# Altium schematic symbol library Connector_Generic.SchLib: 334 symbols (part 8 of 8)
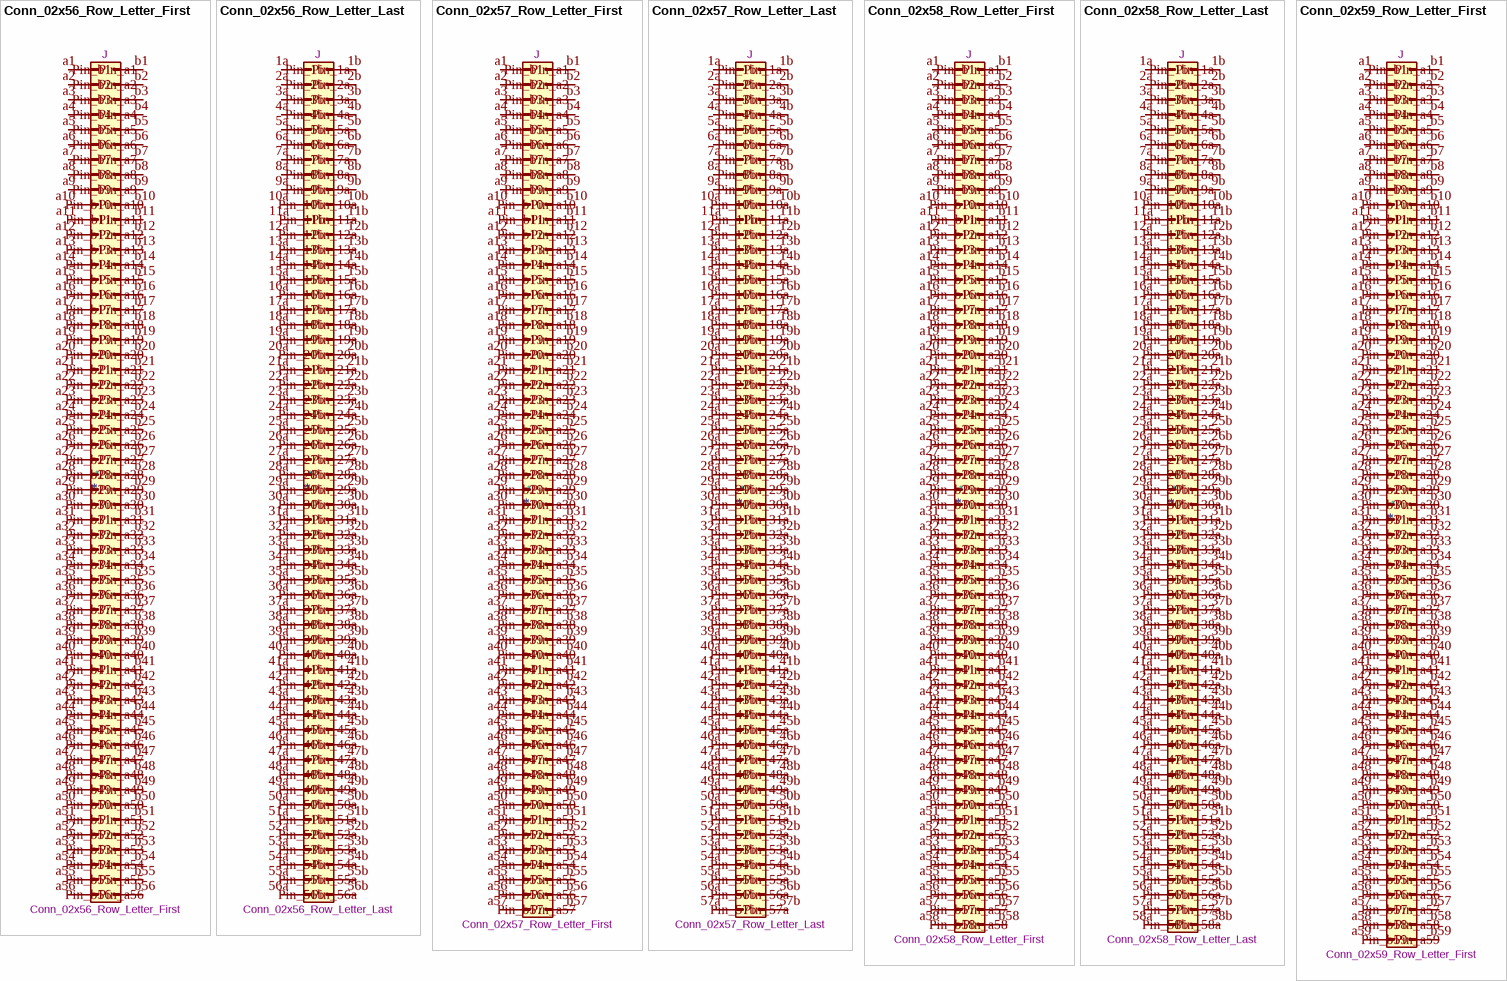
[diagram p23: symbols Conn_02x56_Row_Letter_First to Conn_02x59_Row_Letter_First]

## Conn_02x56_Row_Letter_Last
designator *  value Conn_02x56_Row_Letter_Last  Reference: J
"Generic connector, double row, 02x56, row letter last pin numbering scheme (pin number consists of a number for the row and a letter for the pin index in this row. 1a, ..., Na; 1b, ..., Nb)), script generated"; ki_fp_filters: Connector*:*_2x??_*; Datasheet: ~; Description_: "Generic connector, double row, 02x56, row letter last pin numbering scheme (pin number consists of a number for the row and a letter for the pin index in this row. 1a, ..., Na; 1b, ..., Nb)), script generated"; ki_keywords: connector
pins: 1a Pin_1a, 1b Pin_1b, 2a Pin_2a, 2b Pin_2b, 3a Pin_3a, 3b Pin_3b, 4a Pin_4a, 4b Pin_4b, 5a Pin_5a, 5b Pin_5b, 6a Pin_6a, 6b Pin_6b, 7a Pin_7a, 7b Pin_7b, 8a Pin_8a, 8b Pin_8b, 9a Pin_9a, 9b Pin_9b, 10a Pin_10a, 10b Pin_10b, 11a Pin_11a, 11b Pin_11b, 12a Pin_12a, 12b Pin_12b, 13a Pin_13a, 13b Pin_13b, 14a Pin_14a, 14b Pin_14b, 15a Pin_15a, 15b Pin_15b, 16a Pin_16a, 16b Pin_16b, 17a Pin_17a, 17b Pin_17b, 18a Pin_18a, 18b Pin_18b, 19a Pin_19a, 19b Pin_19b, 20a Pin_20a, 20b Pin_20b, 21a Pin_21a, 21b Pin_21b, 22a Pin_22a, 22b Pin_22b, 23a Pin_23a, 23b Pin_23b, 24a Pin_24a, 24b Pin_24b, 25a Pin_25a, 25b Pin_25b, 26a Pin_26a, 26b Pin_26b, 27a Pin_27a, 27b Pin_27b, 28a Pin_28a, 28b Pin_28b, 29a Pin_29a, 29b Pin_29b, 30a Pin_30a, 30b Pin_30b, 31a Pin_31a, 31b Pin_31b, 32a Pin_32a, 32b Pin_32b, 33a Pin_33a, 33b Pin_33b, 34a Pin_34a, 34b Pin_34b, 35a Pin_35a, 35b Pin_35b, 36a Pin_36a, 36b Pin_36b, 37a Pin_37a, 37b Pin_37b, 38a Pin_38a, 38b Pin_38b, 39a Pin_39a, 39b Pin_39b, 40a Pin_40a, 40b Pin_40b, 41a Pin_41a, 41b Pin_41b, 42a Pin_42a, 42b Pin_42b, 43a Pin_43a, 43b Pin_43b, 44a Pin_44a, 44b Pin_44b, 45a Pin_45a, 45b Pin_45b, 46a Pin_46a, 46b Pin_46b, 47a Pin_47a, 47b Pin_47b, 48a Pin_48a, 48b Pin_48b, 49a Pin_49a, 49b Pin_49b, 50a Pin_50a, 50b Pin_50b, 51a Pin_51a, 51b Pin_51b, 52a Pin_52a, 52b Pin_52b, 53a Pin_53a, 53b Pin_53b, 54a Pin_54a, 54b Pin_54b, 55a Pin_55a, 55b Pin_55b, 56a Pin_56a, 56b Pin_56b

## Conn_02x57_Row_Letter_First
designator *  value Conn_02x57_Row_Letter_First  Reference: J
"Generic connector, double row, 02x57, row letter first pin numbering scheme (pin number consists of a letter for the row and a number for the pin index in this row. a1, ..., aN; b1, ..., bN), script generated"; ki_fp_filters: Connector*:*_2x??_*; Datasheet: ~; Description_: "Generic connector, double row, 02x57, row letter first pin numbering scheme (pin number consists of a letter for the row and a number for the pin index in this row. a1, ..., aN; b1, ..., bN), script generated"; ki_keywords: connector
pins: a1 Pin_a1, a2 Pin_a2, a3 Pin_a3, a4 Pin_a4, a5 Pin_a5, a6 Pin_a6, a7 Pin_a7, a8 Pin_a8, a9 Pin_a9, a10 Pin_a10, a11 Pin_a11, a12 Pin_a12, a13 Pin_a13, a14 Pin_a14, a15 Pin_a15, a16 Pin_a16, a17 Pin_a17, a18 Pin_a18, a19 Pin_a19, a20 Pin_a20, a21 Pin_a21, a22 Pin_a22, a23 Pin_a23, a24 Pin_a24, a25 Pin_a25, a26 Pin_a26, a27 Pin_a27, a28 Pin_a28, a29 Pin_a29, a30 Pin_a30, a31 Pin_a31, a32 Pin_a32, a33 Pin_a33, a34 Pin_a34, a35 Pin_a35, a36 Pin_a36, a37 Pin_a37, a38 Pin_a38, a39 Pin_a39, a40 Pin_a40, a41 Pin_a41, a42 Pin_a42, a43 Pin_a43, a44 Pin_a44, a45 Pin_a45, a46 Pin_a46, a47 Pin_a47, a48 Pin_a48, a49 Pin_a49, a50 Pin_a50, a51 Pin_a51, a52 Pin_a52, a53 Pin_a53, a54 Pin_a54, a55 Pin_a55, a56 Pin_a56, a57 Pin_a57, b1 Pin_b1, b2 Pin_b2, b3 Pin_b3, b4 Pin_b4, b5 Pin_b5, b6 Pin_b6, b7 Pin_b7, b8 Pin_b8, b9 Pin_b9, b10 Pin_b10, b11 Pin_b11, b12 Pin_b12, b13 Pin_b13, b14 Pin_b14, b15 Pin_b15, b16 Pin_b16, b17 Pin_b17, b18 Pin_b18, b19 Pin_b19, b20 Pin_b20, b21 Pin_b21, b22 Pin_b22, b23 Pin_b23, b24 Pin_b24, b25 Pin_b25, b26 Pin_b26, b27 Pin_b27, b28 Pin_b28, b29 Pin_b29, b30 Pin_b30, b31 Pin_b31, b32 Pin_b32, b33 Pin_b33, b34 Pin_b34, b35 Pin_b35, b36 Pin_b36, b37 Pin_b37, b38 Pin_b38, b39 Pin_b39, b40 Pin_b40, b41 Pin_b41, b42 Pin_b42, b43 Pin_b43, b44 Pin_b44, b45 Pin_b45, b46 Pin_b46, b47 Pin_b47, b48 Pin_b48, b49 Pin_b49, b50 Pin_b50, b51 Pin_b51, b52 Pin_b52, b53 Pin_b53, b54 Pin_b54, b55 Pin_b55, b56 Pin_b56, b57 Pin_b57

## Conn_02x57_Row_Letter_Last
designator *  value Conn_02x57_Row_Letter_Last  Reference: J
"Generic connector, double row, 02x57, row letter last pin numbering scheme (pin number consists of a number for the row and a letter for the pin index in this row. 1a, ..., Na; 1b, ..., Nb)), script generated"; ki_fp_filters: Connector*:*_2x??_*; Datasheet: ~; Description_: "Generic connector, double row, 02x57, row letter last pin numbering scheme (pin number consists of a number for the row and a letter for the pin index in this row. 1a, ..., Na; 1b, ..., Nb)), script generated"; ki_keywords: connector
pins: 1a Pin_1a, 1b Pin_1b, 2a Pin_2a, 2b Pin_2b, 3a Pin_3a, 3b Pin_3b, 4a Pin_4a, 4b Pin_4b, 5a Pin_5a, 5b Pin_5b, 6a Pin_6a, 6b Pin_6b, 7a Pin_7a, 7b Pin_7b, 8a Pin_8a, 8b Pin_8b, 9a Pin_9a, 9b Pin_9b, 10a Pin_10a, 10b Pin_10b, 11a Pin_11a, 11b Pin_11b, 12a Pin_12a, 12b Pin_12b, 13a Pin_13a, 13b Pin_13b, 14a Pin_14a, 14b Pin_14b, 15a Pin_15a, 15b Pin_15b, 16a Pin_16a, 16b Pin_16b, 17a Pin_17a, 17b Pin_17b, 18a Pin_18a, 18b Pin_18b, 19a Pin_19a, 19b Pin_19b, 20a Pin_20a, 20b Pin_20b, 21a Pin_21a, 21b Pin_21b, 22a Pin_22a, 22b Pin_22b, 23a Pin_23a, 23b Pin_23b, 24a Pin_24a, 24b Pin_24b, 25a Pin_25a, 25b Pin_25b, 26a Pin_26a, 26b Pin_26b, 27a Pin_27a, 27b Pin_27b, 28a Pin_28a, 28b Pin_28b, 29a Pin_29a, 29b Pin_29b, 30a Pin_30a, 30b Pin_30b, 31a Pin_31a, 31b Pin_31b, 32a Pin_32a, 32b Pin_32b, 33a Pin_33a, 33b Pin_33b, 34a Pin_34a, 34b Pin_34b, 35a Pin_35a, 35b Pin_35b, 36a Pin_36a, 36b Pin_36b, 37a Pin_37a, 37b Pin_37b, 38a Pin_38a, 38b Pin_38b, 39a Pin_39a, 39b Pin_39b, 40a Pin_40a, 40b Pin_40b, 41a Pin_41a, 41b Pin_41b, 42a Pin_42a, 42b Pin_42b, 43a Pin_43a, 43b Pin_43b, 44a Pin_44a, 44b Pin_44b, 45a Pin_45a, 45b Pin_45b, 46a Pin_46a, 46b Pin_46b, 47a Pin_47a, 47b Pin_47b, 48a Pin_48a, 48b Pin_48b, 49a Pin_49a, 49b Pin_49b, 50a Pin_50a, 50b Pin_50b, 51a Pin_51a, 51b Pin_51b, 52a Pin_52a, 52b Pin_52b, 53a Pin_53a, 53b Pin_53b, 54a Pin_54a, 54b Pin_54b, 55a Pin_55a, 55b Pin_55b, 56a Pin_56a, 56b Pin_56b, 57a Pin_57a, 57b Pin_57b

## Conn_02x58_Row_Letter_First
designator *  value Conn_02x58_Row_Letter_First  Reference: J
"Generic connector, double row, 02x58, row letter first pin numbering scheme (pin number consists of a letter for the row and a number for the pin index in this row. a1, ..., aN; b1, ..., bN), script generated"; ki_fp_filters: Connector*:*_2x??_*; Datasheet: ~; Description_: "Generic connector, double row, 02x58, row letter first pin numbering scheme (pin number consists of a letter for the row and a number for the pin index in this row. a1, ..., aN; b1, ..., bN), script generated"; ki_keywords: connector
pins: a1 Pin_a1, a2 Pin_a2, a3 Pin_a3, a4 Pin_a4, a5 Pin_a5, a6 Pin_a6, a7 Pin_a7, a8 Pin_a8, a9 Pin_a9, a10 Pin_a10, a11 Pin_a11, a12 Pin_a12, a13 Pin_a13, a14 Pin_a14, a15 Pin_a15, a16 Pin_a16, a17 Pin_a17, a18 Pin_a18, a19 Pin_a19, a20 Pin_a20, a21 Pin_a21, a22 Pin_a22, a23 Pin_a23, a24 Pin_a24, a25 Pin_a25, a26 Pin_a26, a27 Pin_a27, a28 Pin_a28, a29 Pin_a29, a30 Pin_a30, a31 Pin_a31, a32 Pin_a32, a33 Pin_a33, a34 Pin_a34, a35 Pin_a35, a36 Pin_a36, a37 Pin_a37, a38 Pin_a38, a39 Pin_a39, a40 Pin_a40, a41 Pin_a41, a42 Pin_a42, a43 Pin_a43, a44 Pin_a44, a45 Pin_a45, a46 Pin_a46, a47 Pin_a47, a48 Pin_a48, a49 Pin_a49, a50 Pin_a50, a51 Pin_a51, a52 Pin_a52, a53 Pin_a53, a54 Pin_a54, a55 Pin_a55, a56 Pin_a56, a57 Pin_a57, a58 Pin_a58, b1 Pin_b1, b2 Pin_b2, b3 Pin_b3, b4 Pin_b4, b5 Pin_b5, b6 Pin_b6, b7 Pin_b7, b8 Pin_b8, b9 Pin_b9, b10 Pin_b10, b11 Pin_b11, b12 Pin_b12, b13 Pin_b13, b14 Pin_b14, b15 Pin_b15, b16 Pin_b16, b17 Pin_b17, b18 Pin_b18, b19 Pin_b19, b20 Pin_b20, b21 Pin_b21, b22 Pin_b22, b23 Pin_b23, b24 Pin_b24, b25 Pin_b25, b26 Pin_b26, b27 Pin_b27, b28 Pin_b28, b29 Pin_b29, b30 Pin_b30, b31 Pin_b31, b32 Pin_b32, b33 Pin_b33, b34 Pin_b34, b35 Pin_b35, b36 Pin_b36, b37 Pin_b37, b38 Pin_b38, b39 Pin_b39, b40 Pin_b40, b41 Pin_b41, b42 Pin_b42, b43 Pin_b43, b44 Pin_b44, b45 Pin_b45, b46 Pin_b46, b47 Pin_b47, b48 Pin_b48, b49 Pin_b49, b50 Pin_b50, b51 Pin_b51, b52 Pin_b52, b53 Pin_b53, b54 Pin_b54, b55 Pin_b55, b56 Pin_b56, b57 Pin_b57, b58 Pin_b58

## Conn_02x58_Row_Letter_Last
designator *  value Conn_02x58_Row_Letter_Last  Reference: J
"Generic connector, double row, 02x58, row letter last pin numbering scheme (pin number consists of a number for the row and a letter for the pin index in this row. 1a, ..., Na; 1b, ..., Nb)), script generated"; ki_fp_filters: Connector*:*_2x??_*; Datasheet: ~; Description_: "Generic connector, double row, 02x58, row letter last pin numbering scheme (pin number consists of a number for the row and a letter for the pin index in this row. 1a, ..., Na; 1b, ..., Nb)), script generated"; ki_keywords: connector
pins: 1a Pin_1a, 1b Pin_1b, 2a Pin_2a, 2b Pin_2b, 3a Pin_3a, 3b Pin_3b, 4a Pin_4a, 4b Pin_4b, 5a Pin_5a, 5b Pin_5b, 6a Pin_6a, 6b Pin_6b, 7a Pin_7a, 7b Pin_7b, 8a Pin_8a, 8b Pin_8b, 9a Pin_9a, 9b Pin_9b, 10a Pin_10a, 10b Pin_10b, 11a Pin_11a, 11b Pin_11b, 12a Pin_12a, 12b Pin_12b, 13a Pin_13a, 13b Pin_13b, 14a Pin_14a, 14b Pin_14b, 15a Pin_15a, 15b Pin_15b, 16a Pin_16a, 16b Pin_16b, 17a Pin_17a, 17b Pin_17b, 18a Pin_18a, 18b Pin_18b, 19a Pin_19a, 19b Pin_19b, 20a Pin_20a, 20b Pin_20b, 21a Pin_21a, 21b Pin_21b, 22a Pin_22a, 22b Pin_22b, 23a Pin_23a, 23b Pin_23b, 24a Pin_24a, 24b Pin_24b, 25a Pin_25a, 25b Pin_25b, 26a Pin_26a, 26b Pin_26b, 27a Pin_27a, 27b Pin_27b, 28a Pin_28a, 28b Pin_28b, 29a Pin_29a, 29b Pin_29b, 30a Pin_30a, 30b Pin_30b, 31a Pin_31a, 31b Pin_31b, 32a Pin_32a, 32b Pin_32b, 33a Pin_33a, 33b Pin_33b, 34a Pin_34a, 34b Pin_34b, 35a Pin_35a, 35b Pin_35b, 36a Pin_36a, 36b Pin_36b, 37a Pin_37a, 37b Pin_37b, 38a Pin_38a, 38b Pin_38b, 39a Pin_39a, 39b Pin_39b, 40a Pin_40a, 40b Pin_40b, 41a Pin_41a, 41b Pin_41b, 42a Pin_42a, 42b Pin_42b, 43a Pin_43a, 43b Pin_43b, 44a Pin_44a, 44b Pin_44b, 45a Pin_45a, 45b Pin_45b, 46a Pin_46a, 46b Pin_46b, 47a Pin_47a, 47b Pin_47b, 48a Pin_48a, 48b Pin_48b, 49a Pin_49a, 49b Pin_49b, 50a Pin_50a, 50b Pin_50b, 51a Pin_51a, 51b Pin_51b, 52a Pin_52a, 52b Pin_52b, 53a Pin_53a, 53b Pin_53b, 54a Pin_54a, 54b Pin_54b, 55a Pin_55a, 55b Pin_55b, 56a Pin_56a, 56b Pin_56b, 57a Pin_57a, 57b Pin_57b, 58a Pin_58a, 58b Pin_58b

## Conn_02x59_Row_Letter_First
designator *  value Conn_02x59_Row_Letter_First  Reference: J
"Generic connector, double row, 02x59, row letter first pin numbering scheme (pin number consists of a letter for the row and a number for the pin index in this row. a1, ..., aN; b1, ..., bN), script generated"; ki_fp_filters: Connector*:*_2x??_*; Datasheet: ~; Description_: "Generic connector, double row, 02x59, row letter first pin numbering scheme (pin number consists of a letter for the row and a number for the pin index in this row. a1, ..., aN; b1, ..., bN), script generated"; ki_keywords: connector
pins: a1 Pin_a1, a2 Pin_a2, a3 Pin_a3, a4 Pin_a4, a5 Pin_a5, a6 Pin_a6, a7 Pin_a7, a8 Pin_a8, a9 Pin_a9, a10 Pin_a10, a11 Pin_a11, a12 Pin_a12, a13 Pin_a13, a14 Pin_a14, a15 Pin_a15, a16 Pin_a16, a17 Pin_a17, a18 Pin_a18, a19 Pin_a19, a20 Pin_a20, a21 Pin_a21, a22 Pin_a22, a23 Pin_a23, a24 Pin_a24, a25 Pin_a25, a26 Pin_a26, a27 Pin_a27, a28 Pin_a28, a29 Pin_a29, a30 Pin_a30, a31 Pin_a31, a32 Pin_a32, a33 Pin_a33, a34 Pin_a34, a35 Pin_a35, a36 Pin_a36, a37 Pin_a37, a38 Pin_a38, a39 Pin_a39, a40 Pin_a40, a41 Pin_a41, a42 Pin_a42, a43 Pin_a43, a44 Pin_a44, a45 Pin_a45, a46 Pin_a46, a47 Pin_a47, a48 Pin_a48, a49 Pin_a49, a50 Pin_a50, a51 Pin_a51, a52 Pin_a52, a53 Pin_a53, a54 Pin_a54, a55 Pin_a55, a56 Pin_a56, a57 Pin_a57, a58 Pin_a58, a59 Pin_a59, b1 Pin_b1, b2 Pin_b2, b3 Pin_b3, b4 Pin_b4, b5 Pin_b5, b6 Pin_b6, b7 Pin_b7, b8 Pin_b8, b9 Pin_b9, b10 Pin_b10, b11 Pin_b11, b12 Pin_b12, b13 Pin_b13, b14 Pin_b14, b15 Pin_b15, b16 Pin_b16, b17 Pin_b17, b18 Pin_b18, b19 Pin_b19, b20 Pin_b20, b21 Pin_b21, b22 Pin_b22, b23 Pin_b23, b24 Pin_b24, b25 Pin_b25, b26 Pin_b26, b27 Pin_b27, b28 Pin_b28, b29 Pin_b29, b30 Pin_b30, b31 Pin_b31, b32 Pin_b32, b33 Pin_b33, b34 Pin_b34, b35 Pin_b35, b36 Pin_b36, b37 Pin_b37, b38 Pin_b38, b39 Pin_b39, b40 Pin_b40, b41 Pin_b41, b42 Pin_b42, b43 Pin_b43, b44 Pin_b44, b45 Pin_b45, b46 Pin_b46, b47 Pin_b47, b48 Pin_b48, b49 Pin_b49, b50 Pin_b50, b51 Pin_b51, b52 Pin_b52, b53 Pin_b53, b54 Pin_b54, b55 Pin_b55, b56 Pin_b56, b57 Pin_b57, b58 Pin_b58, b59 Pin_b59

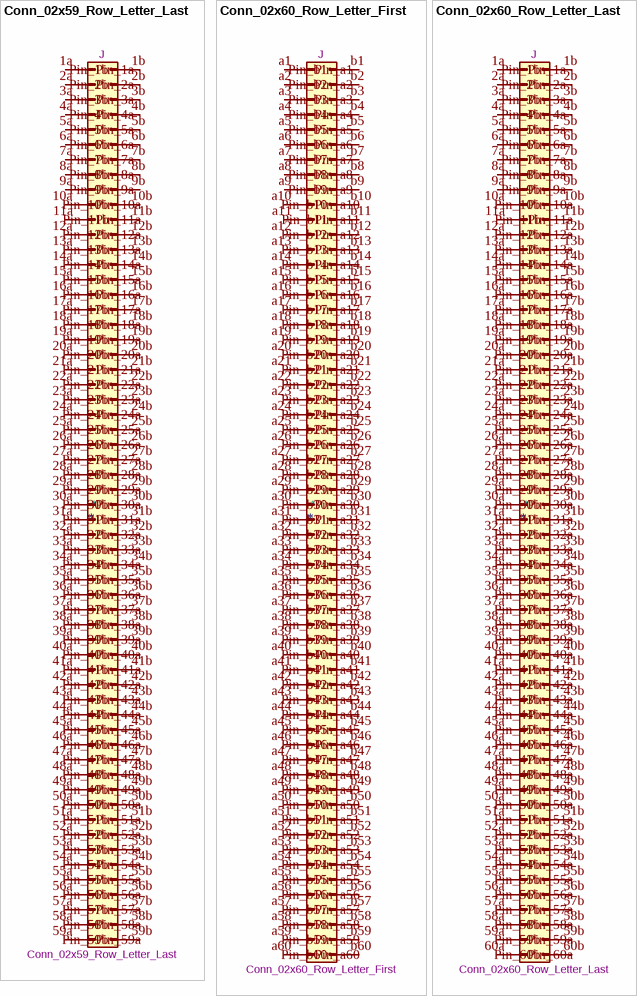
[diagram p16: symbols Conn_02x59_Row_Letter_Last to Conn_02x60_Row_Letter_Last]

## Conn_02x59_Row_Letter_Last
designator *  value Conn_02x59_Row_Letter_Last  Reference: J
"Generic connector, double row, 02x59, row letter last pin numbering scheme (pin number consists of a number for the row and a letter for the pin index in this row. 1a, ..., Na; 1b, ..., Nb)), script generated"; ki_fp_filters: Connector*:*_2x??_*; Datasheet: ~; Description_: "Generic connector, double row, 02x59, row letter last pin numbering scheme (pin number consists of a number for the row and a letter for the pin index in this row. 1a, ..., Na; 1b, ..., Nb)), script generated"; ki_keywords: connector
pins: 1a Pin_1a, 1b Pin_1b, 2a Pin_2a, 2b Pin_2b, 3a Pin_3a, 3b Pin_3b, 4a Pin_4a, 4b Pin_4b, 5a Pin_5a, 5b Pin_5b, 6a Pin_6a, 6b Pin_6b, 7a Pin_7a, 7b Pin_7b, 8a Pin_8a, 8b Pin_8b, 9a Pin_9a, 9b Pin_9b, 10a Pin_10a, 10b Pin_10b, 11a Pin_11a, 11b Pin_11b, 12a Pin_12a, 12b Pin_12b, 13a Pin_13a, 13b Pin_13b, 14a Pin_14a, 14b Pin_14b, 15a Pin_15a, 15b Pin_15b, 16a Pin_16a, 16b Pin_16b, 17a Pin_17a, 17b Pin_17b, 18a Pin_18a, 18b Pin_18b, 19a Pin_19a, 19b Pin_19b, 20a Pin_20a, 20b Pin_20b, 21a Pin_21a, 21b Pin_21b, 22a Pin_22a, 22b Pin_22b, 23a Pin_23a, 23b Pin_23b, 24a Pin_24a, 24b Pin_24b, 25a Pin_25a, 25b Pin_25b, 26a Pin_26a, 26b Pin_26b, 27a Pin_27a, 27b Pin_27b, 28a Pin_28a, 28b Pin_28b, 29a Pin_29a, 29b Pin_29b, 30a Pin_30a, 30b Pin_30b, 31a Pin_31a, 31b Pin_31b, 32a Pin_32a, 32b Pin_32b, 33a Pin_33a, 33b Pin_33b, 34a Pin_34a, 34b Pin_34b, 35a Pin_35a, 35b Pin_35b, 36a Pin_36a, 36b Pin_36b, 37a Pin_37a, 37b Pin_37b, 38a Pin_38a, 38b Pin_38b, 39a Pin_39a, 39b Pin_39b, 40a Pin_40a, 40b Pin_40b, 41a Pin_41a, 41b Pin_41b, 42a Pin_42a, 42b Pin_42b, 43a Pin_43a, 43b Pin_43b, 44a Pin_44a, 44b Pin_44b, 45a Pin_45a, 45b Pin_45b, 46a Pin_46a, 46b Pin_46b, 47a Pin_47a, 47b Pin_47b, 48a Pin_48a, 48b Pin_48b, 49a Pin_49a, 49b Pin_49b, 50a Pin_50a, 50b Pin_50b, 51a Pin_51a, 51b Pin_51b, 52a Pin_52a, 52b Pin_52b, 53a Pin_53a, 53b Pin_53b, 54a Pin_54a, 54b Pin_54b, 55a Pin_55a, 55b Pin_55b, 56a Pin_56a, 56b Pin_56b, 57a Pin_57a, 57b Pin_57b, 58a Pin_58a, 58b Pin_58b, 59a Pin_59a, 59b Pin_59b

## Conn_02x60_Row_Letter_First
designator *  value Conn_02x60_Row_Letter_First  Reference: J
"Generic connector, double row, 02x60, row letter first pin numbering scheme (pin number consists of a letter for the row and a number for the pin index in this row. a1, ..., aN; b1, ..., bN), script generated"; ki_fp_filters: Connector*:*_2x??_*; Datasheet: ~; Description_: "Generic connector, double row, 02x60, row letter first pin numbering scheme (pin number consists of a letter for the row and a number for the pin index in this row. a1, ..., aN; b1, ..., bN), script generated"; ki_keywords: connector
pins: a1 Pin_a1, a2 Pin_a2, a3 Pin_a3, a4 Pin_a4, a5 Pin_a5, a6 Pin_a6, a7 Pin_a7, a8 Pin_a8, a9 Pin_a9, a10 Pin_a10, a11 Pin_a11, a12 Pin_a12, a13 Pin_a13, a14 Pin_a14, a15 Pin_a15, a16 Pin_a16, a17 Pin_a17, a18 Pin_a18, a19 Pin_a19, a20 Pin_a20, a21 Pin_a21, a22 Pin_a22, a23 Pin_a23, a24 Pin_a24, a25 Pin_a25, a26 Pin_a26, a27 Pin_a27, a28 Pin_a28, a29 Pin_a29, a30 Pin_a30, a31 Pin_a31, a32 Pin_a32, a33 Pin_a33, a34 Pin_a34, a35 Pin_a35, a36 Pin_a36, a37 Pin_a37, a38 Pin_a38, a39 Pin_a39, a40 Pin_a40, a41 Pin_a41, a42 Pin_a42, a43 Pin_a43, a44 Pin_a44, a45 Pin_a45, a46 Pin_a46, a47 Pin_a47, a48 Pin_a48, a49 Pin_a49, a50 Pin_a50, a51 Pin_a51, a52 Pin_a52, a53 Pin_a53, a54 Pin_a54, a55 Pin_a55, a56 Pin_a56, a57 Pin_a57, a58 Pin_a58, a59 Pin_a59, a60 Pin_a60, b1 Pin_b1, b2 Pin_b2, b3 Pin_b3, b4 Pin_b4, b5 Pin_b5, b6 Pin_b6, b7 Pin_b7, b8 Pin_b8, b9 Pin_b9, b10 Pin_b10, b11 Pin_b11, b12 Pin_b12, b13 Pin_b13, b14 Pin_b14, b15 Pin_b15, b16 Pin_b16, b17 Pin_b17, b18 Pin_b18, b19 Pin_b19, b20 Pin_b20, b21 Pin_b21, b22 Pin_b22, b23 Pin_b23, b24 Pin_b24, b25 Pin_b25, b26 Pin_b26, b27 Pin_b27, b28 Pin_b28, b29 Pin_b29, b30 Pin_b30, b31 Pin_b31, b32 Pin_b32, b33 Pin_b33, b34 Pin_b34, b35 Pin_b35, b36 Pin_b36, b37 Pin_b37, b38 Pin_b38, b39 Pin_b39, b40 Pin_b40, b41 Pin_b41, b42 Pin_b42, b43 Pin_b43, b44 Pin_b44, b45 Pin_b45, b46 Pin_b46, b47 Pin_b47, b48 Pin_b48, b49 Pin_b49, b50 Pin_b50, b51 Pin_b51, b52 Pin_b52, b53 Pin_b53, b54 Pin_b54, b55 Pin_b55, b56 Pin_b56, b57 Pin_b57, b58 Pin_b58, b59 Pin_b59, b60 Pin_b60

## Conn_02x60_Row_Letter_Last
designator *  value Conn_02x60_Row_Letter_Last  Reference: J
"Generic connector, double row, 02x60, row letter last pin numbering scheme (pin number consists of a number for the row and a letter for the pin index in this row. 1a, ..., Na; 1b, ..., Nb)), script generated"; ki_fp_filters: Connector*:*_2x??_*; Datasheet: ~; Description_: "Generic connector, double row, 02x60, row letter last pin numbering scheme (pin number consists of a number for the row and a letter for the pin index in this row. 1a, ..., Na; 1b, ..., Nb)), script generated"; ki_keywords: connector
pins: 1a Pin_1a, 1b Pin_1b, 2a Pin_2a, 2b Pin_2b, 3a Pin_3a, 3b Pin_3b, 4a Pin_4a, 4b Pin_4b, 5a Pin_5a, 5b Pin_5b, 6a Pin_6a, 6b Pin_6b, 7a Pin_7a, 7b Pin_7b, 8a Pin_8a, 8b Pin_8b, 9a Pin_9a, 9b Pin_9b, 10a Pin_10a, 10b Pin_10b, 11a Pin_11a, 11b Pin_11b, 12a Pin_12a, 12b Pin_12b, 13a Pin_13a, 13b Pin_13b, 14a Pin_14a, 14b Pin_14b, 15a Pin_15a, 15b Pin_15b, 16a Pin_16a, 16b Pin_16b, 17a Pin_17a, 17b Pin_17b, 18a Pin_18a, 18b Pin_18b, 19a Pin_19a, 19b Pin_19b, 20a Pin_20a, 20b Pin_20b, 21a Pin_21a, 21b Pin_21b, 22a Pin_22a, 22b Pin_22b, 23a Pin_23a, 23b Pin_23b, 24a Pin_24a, 24b Pin_24b, 25a Pin_25a, 25b Pin_25b, 26a Pin_26a, 26b Pin_26b, 27a Pin_27a, 27b Pin_27b, 28a Pin_28a, 28b Pin_28b, 29a Pin_29a, 29b Pin_29b, 30a Pin_30a, 30b Pin_30b, 31a Pin_31a, 31b Pin_31b, 32a Pin_32a, 32b Pin_32b, 33a Pin_33a, 33b Pin_33b, 34a Pin_34a, 34b Pin_34b, 35a Pin_35a, 35b Pin_35b, 36a Pin_36a, 36b Pin_36b, 37a Pin_37a, 37b Pin_37b, 38a Pin_38a, 38b Pin_38b, 39a Pin_39a, 39b Pin_39b, 40a Pin_40a, 40b Pin_40b, 41a Pin_41a, 41b Pin_41b, 42a Pin_42a, 42b Pin_42b, 43a Pin_43a, 43b Pin_43b, 44a Pin_44a, 44b Pin_44b, 45a Pin_45a, 45b Pin_45b, 46a Pin_46a, 46b Pin_46b, 47a Pin_47a, 47b Pin_47b, 48a Pin_48a, 48b Pin_48b, 49a Pin_49a, 49b Pin_49b, 50a Pin_50a, 50b Pin_50b, 51a Pin_51a, 51b Pin_51b, 52a Pin_52a, 52b Pin_52b, 53a Pin_53a, 53b Pin_53b, 54a Pin_54a, 54b Pin_54b, 55a Pin_55a, 55b Pin_55b, 56a Pin_56a, 56b Pin_56b, 57a Pin_57a, 57b Pin_57b, 58a Pin_58a, 58b Pin_58b, 59a Pin_59a, 59b Pin_59b, 60a Pin_60a, 60b Pin_60b